# Altium footprint library Fuses.PcbLib: 86 footprints (part 3 of 6)
Each footprint in its own frame and in the unit in brackets; x right, y up, seen from the top. Pads: shape width x height; smd on the part's side, far side on the other; paste and mask are expansions set on the pad; w line width, h text height; cw(c..) or ccw(c..) is an arc to the next point about the centre after c.
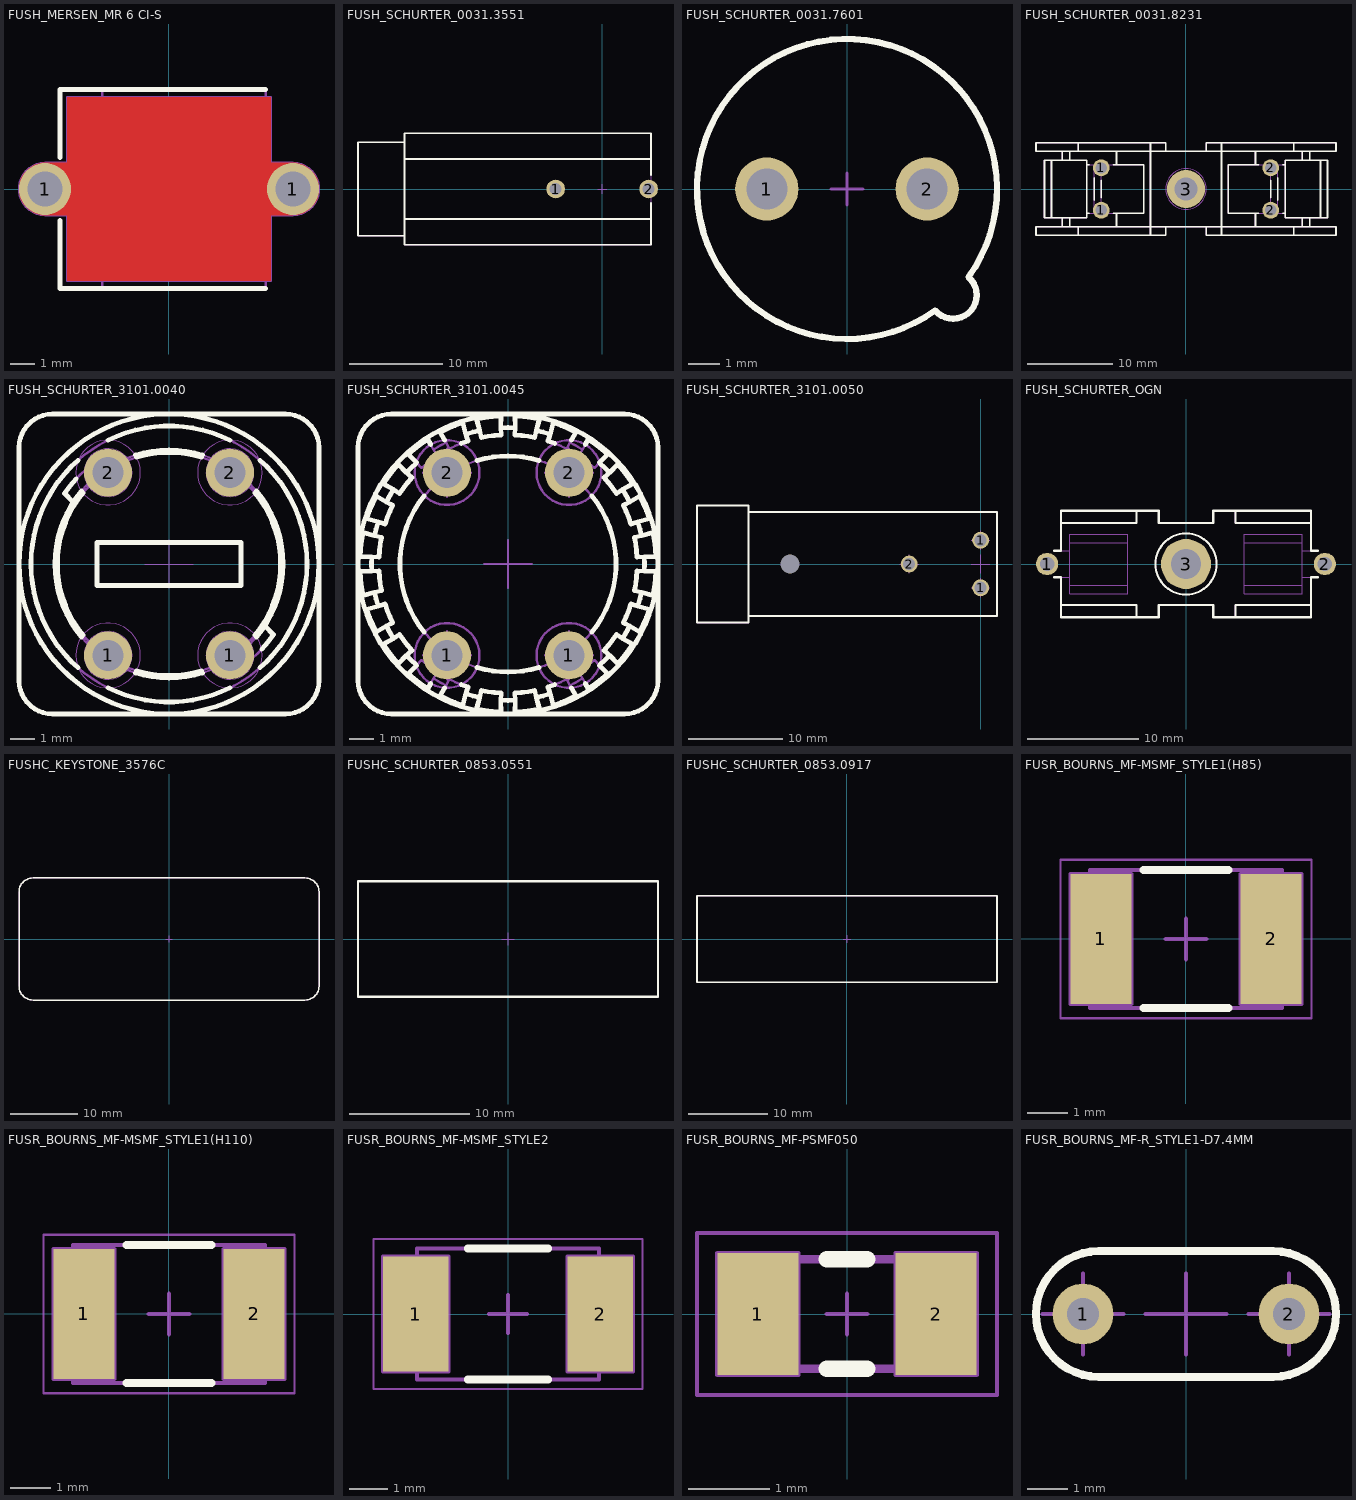
[diagram p2: the footprints below, top view; thin cyan lines are the x and y axes]

## FUSH_MERSEN_MR 6 CI-S [mm] "MERSEN MR 6 CI-S, Fuse Clip for 1/4\" (6.35)mm Diameter Fuses"
height 11
pads (2):
  round 2.1 hole 1.4: 1(-5,0) 1(5,0)
Top Layer:
  region: -5,-1.05 -5.138,-1.05 -5.405,-0.978 -5.645,-0.84 -5.84,-0.645 -5.978,-0.405 -6.05,-0.138 -6.05,0.138 -5.978,0.405 -5.84,0.645 -5.645,0.84 -5.405,0.978 -5.138,1.05 -5,1.05 -4.1,1.05 -4.1,3.7 4.1,3.7 4.1,1.05 5,1.05 5.138,1.05 5.405,0.978 5.645,0.84 5.84,0.645 5.978,0.405 6.05,0.138 6.05,-0.138 5.978,-0.405 5.84,-0.645 5.645,-0.84 5.405,-0.978 5.138,-1.05 5,-1.05 4.1,-1.05 4.1,-3.7 -4.1,-3.7 -4.1,-1.05
Top Overlay:
  lines w0.2: -4.4,-1.269 -4.4,-4.014 3.9,-4.014 ; -4.4,1.269 -4.4,4.014 3.9,4.014
Mechanical 8:
  lines w0.1: -5.5,0 -5,0 ; -5,-0.5 -5,0 ; -5,0.5 -5,0 ; -4.5,0 -5,0 ; -0.5,0 0,0 ; 0,-0.5 0,0 ; 0,0.5 0,0 ; 0.5,0 0,0 ; 4.5,0 5,0 ; 5,-0.5 5,0 ; 5,0.5 5,0 ; 5.5,0 5,0 ; -5,-1.05 cw(c-5,0) -5,1.05 -4.1,1.05 -4.1,3.7 4.1,3.7 4.1,1.05 5,1.05 cw(c5,0) 5,-1.05 4.1,-1.05 4.1,-3.7 -4.1,-3.7 -4.1,-1.05 -5,-1.05
Mechanical 14:
  lines w0.1: -3.9,-1.704 -2.7,-1.704 -2.7,-4.014 3.9,-4.014 3.9,4.014 -2.7,4.014 -2.7,1.704 -3.9,1.704 ; -3.9,-0.55 -5.2,-0.55 -5.2,0.55 -3.9,0.55 ; -2.7,-3.619 -3.9,-3.619 -3.9,3.619 -2.7,3.619 ; -2.7,-2.191 3.9,-2.191 ; -2.7,2.194 3.9,2.194 ; 3.9,-0.55 5.2,-0.55 5.2,0.55 3.9,0.55
3D body "FUSH_MERSEN_MR 6 CI-S.stp": height 10.89, standoff -3.6, extent -5.2,-4.013 5.2,4.014

## FUSH_SCHURTER_0031.3551 [mm] "SCHURTER Type FAB, Horizontal Fuse holder for 5x20mm Fuses"
height 10.16
pads (2):
  round 2 hole 1.3: 1(-5,0) 2(5,0)
Top Overlay:
  lines w0.2: -21.25,-5.03 -26.25,-5.03 -26.25,5.03 -21.25,5.03 ; -21.25,-3.224 5.25,-3.224 ; -21.25,3.224 5.25,3.224 ; 5.25,-1.5 5.25,-6 -21.25,-6 -21.25,6 5.25,6 5.25,1.5
Mechanical 8:
  lines w0.1: -5.5,0 -5,0 ; -5,-0.5 -5,0 ; -5,0.5 -5,0 ; -4.5,0 -5,0 ; -0.5,0 0,0 ; 0,-0.5 0,0 ; 0,0.5 0,0 ; 0.5,0 0,0 ; 4.5,0 5,0 ; 5,-0.5 5,0 ; 5,0.5 5,0 ; 5.5,0 5,0
Mechanical 14:
  lines w0.1: -21.25,-5.03 -26.25,-5.03 -26.25,5.03 -21.25,5.03 ; -21.25,-3.224 5.25,-3.224 ; -21.25,3.224 5.25,3.224 ; -21.25,-6 -21.25,6 5.25,6 5.25,-6 -21.25,-6
3D body "FUSH_SCHURTER_0031.3551.stp": height 10.06, standoff -5, extent -26.25,-6 5.25,6

## FUSH_SCHURTER_0031.7601 [mm] "Vertical Fuse Holder For D8.5x H 8.5mm Subminiature Fuses"
height 4.4
pads (2):
  round 2 hole 1.3: 1(-2.54,0) 2(2.54,0)
Top Overlay:
  lines w0.2: 2.789,-3.846 ccw(c3.359,-3.359) 3.846,-2.789 ccw(c0,0) 2.789,-3.846
Mechanical 8:
  lines w0.1: -3.04,0 -2.54,0 ; -2.54,-0.5 -2.54,0 ; -2.54,0.5 -2.54,0 ; -2.04,0 -2.54,0 ; -0.5,0 0,0 ; 0,-0.5 0,0 ; 0,0.5 0,0 ; 0.5,0 0,0 ; 2.04,0 2.54,0 ; 2.54,-0.5 2.54,0 ; 2.54,0.5 2.54,0 ; 3.04,0 2.54,0
Mechanical 14:
  circle w0.1: c2.54,0 r0.55
  circle w0.1: c-2.54,0 r0.55
  lines w0.1: 2.789,-3.846 ccw(c3.359,-3.359) 3.846,-2.789 ccw(c0,0) 2.789,-3.846
3D body "FUSH_SCHURTER_0031.7601.stp": height 4.4, standoff -3.2, extent -4.75,-4.746 4.75,4.746

## FUSH_SCHURTER_0031.8231 [mm] "SCHURTER OGD Series, Fuse holder for 5x20mm/6.3x32mm Fuses"
height 11.5
pads (5):
  round 2 hole 1.3: 1(-10,-2.5) 1(-10,2.5) 2(10,-2.5) 2(10,2.5)
  round 4.5 hole 2.7: 3(0,0)
Top Overlay:
  lines w0.2: -15.875,-3.375 -15.875,3.375 ; -14.6,-4.45 -14.6,-3.375 ; -14.6,3.375 -14.6,4.45 ; -13.7,-4.45 -13.7,-3.375 ; -13.7,3.375 -13.7,4.45 ; -12.7,-5.45 -12.7,-4.45 ; -12.7,4.45 -12.7,5.45 ; -11.7,-2.878 -11.4,-2.878 ; -11.7,2.878 -11.4,2.878 ; -10.825,-1.308 -10.825,1.308 ; -10,-1.05 -10,1.05 ; -8.6,-2.878 -5,-2.878 -5,2.878 -8.6,2.878 ; -8.2,-4.45 -8.2,-2.878 ; -8.2,2.878 -8.2,4.45 ; -4.2,-5.45 -4.2,5.45 ; 4.2,-5.45 4.2,5.45 ; 8.2,-4.45 8.2,-2.878 ; 8.2,2.878 8.2,4.45 ; 8.6,-2.878 5,-2.878 5,2.878 8.6,2.878 ; 10,-1.05 10,1.05 ; 10.825,-1.308 10.825,1.308 ; 11.4,-2.878 11.7,-2.878 ; 11.4,2.878 11.7,2.878 ; 12.7,-5.45 12.7,-4.45 ; 12.7,4.45 12.7,5.45 ; 13.7,-4.45 13.7,-3.375 ; 13.7,3.375 13.7,4.45 ; 14.6,-4.45 14.6,-3.375 ; 14.6,3.375 14.6,4.45 ; 15.875,-3.375 15.875,3.375 ; -2.4,-4.45 2.4,-4.45 ; -2.4,-4.45 -2.4,-5.45 -17.7,-5.45 -17.7,-4.45 -2.4,-4.45 ; -2.4,4.45 -17.7,4.45 -17.7,5.45 -2.4,5.45 -2.4,4.45 ; -2.4,4.45 2.4,4.45 ; 2.4,-4.45 17.7,-4.45 17.7,-5.45 2.4,-5.45 2.4,-4.45 ; 2.4,4.45 17.7,4.45 17.7,5.45 2.4,5.45 2.4,4.45 ; -16.7,-3.375 -11.7,-3.375 -11.7,3.375 -16.7,3.375 -16.7,-3.375 ; 11.7,-3.375 11.7,3.375 16.7,3.375 16.7,-3.375 11.7,-3.375
Mechanical 8:
  lines w0.1: -10.5,-2.5 -10,-2.5 ; -10.5,2.5 -10,2.5 ; -10,-3 -10,-2.5 ; -10,-2 -10,-2.5 ; -10,2 -10,2.5 ; -10,3 -10,2.5 ; -9.5,-2.5 -10,-2.5 ; -9.5,2.5 -10,2.5 ; -0.5,0 0,0 ; 0,-0.5 0,0 ; 0,0.5 0,0 ; 0.5,0 0,0 ; 9.5,-2.5 10,-2.5 ; 9.5,2.5 10,2.5 ; 10,-3 10,-2.5 ; 10,-2 10,-2.5 ; 10,2 10,2.5 ; 10,3 10,2.5 ; 10.5,-2.5 10,-2.5 ; 10.5,2.5 10,2.5
Mechanical 14:
  circle w0.1: c0,0 r2.4
  circle w0.1: c0,0 r1.35
  lines w0.1: -15.875,-3.375 -15.875,3.375 ; -14.6,-4.45 -14.6,-3.375 ; -14.6,3.375 -14.6,4.45 ; -13.7,-4.45 -13.7,-3.375 ; -13.7,3.375 -13.7,4.45 ; -12.7,-5.45 -12.7,-4.45 ; -12.7,4.45 -12.7,5.45 ; -11.7,-2.878 -10.825,-2.878 ; -11.7,2.878 -10.825,2.878 ; -10,-2.896 -10,2.878 ; -8.2,-4.45 -8.2,-2.878 ; -8.2,2.878 -8.2,4.45 ; -4.2,-5.45 -4.2,5.45 ; 4.2,-5.45 4.2,5.45 ; 8.2,-4.45 8.2,-2.878 ; 8.2,2.878 8.2,4.45 ; 10,-2.896 10,2.878 ; 11.7,-2.878 10.825,-2.878 ; 11.7,2.878 10.825,2.878 ; 12.7,-5.45 12.7,-4.45 ; 12.7,4.45 12.7,5.45 ; 13.7,-4.45 13.7,-3.375 ; 13.7,3.375 13.7,4.45 ; 14.6,-4.45 14.6,-3.375 ; 14.6,3.375 14.6,4.45 ; 15.875,-3.375 15.875,3.375 ; -10.825,-2.878 -5,-2.878 -5,2.878 -10.825,2.878 ; -10.825,-2.878 -10.825,2.878 ; -2.4,-4.45 2.4,-4.45 ; -2.4,-4.45 -2.4,-5.45 -17.7,-5.45 -17.7,-4.45 -2.4,-4.45 ; -2.4,4.45 -17.7,4.45 -17.7,5.45 -2.4,5.45 -2.4,4.45 ; -2.4,4.45 2.4,4.45 ; 2.4,-4.45 17.7,-4.45 17.7,-5.45 2.4,-5.45 2.4,-4.45 ; 2.4,4.45 17.7,4.45 17.7,5.45 2.4,5.45 2.4,4.45 ; 10.825,-2.878 5,-2.878 5,2.878 10.825,2.878 ; 10.825,-2.878 10.825,2.878 ; -16.7,-3.375 -11.7,-3.375 -11.7,3.375 -16.7,3.375 -16.7,-3.375 ; 11.7,-3.375 11.7,3.375 16.7,3.375 16.7,-3.375 11.7,-3.375
3D body "FUSH_SCHURTER_0031.8231.stp": height 12.7, standoff -3.13, extent -17.7,-5.45 17.7,5.45

## FUSH_SCHURTER_3101.0040 [mm] "SCHURTER Type FPG4, Vertical Fuse Holder for 5x20mm Fuses"
height 32.6
pads (4):
  round 2 hole 1.3: 1(-2.54,-3.81) 1(2.54,-3.81) 2(-2.54,3.81) 2(2.54,3.81)
Top Overlay:
  circle w0.2: c0,0 r6.25
  lines w0.2: -3.991,2.576 -4.351,2.937 cw(c0,0) -3.865,3.553 ; -3.787,-4.327 cw(c0,0) -3.787,4.327 ; -3.649,-3.041 cw(c0,0) -3.649,3.041 ; -3.588,-2.958 cw(c0,0) -3.588,2.958 ; -2.54,5.16 cw(c0,-0.008) 2.54,5.16 ; -2.537,-5.16 ccw(c0,0) 2.537,-5.16 ; -1.403,-4.538 ccw(c0,0) 1.403,-4.538 ; -1.403,4.538 cw(c0,0) 1.403,4.538 ; -1.351,-4.449 ccw(c0,0) 1.351,-4.449 ; -1.351,4.449 cw(c0,0) 1.351,4.449 ; 3.588,-2.958 ccw(c0,0) 3.588,2.958 ; 3.649,-3.041 ccw(c0,0) 3.649,3.041 ; 3.787,-4.327 ccw(c0,0) 3.787,4.327 ; 3.865,-3.553 ccw(c0,0) 4.351,-2.937 3.991,-2.576 ; -6.25,-4.85 ccw(c-4.85,-4.85) -4.85,-6.25 4.85,-6.25 ccw(c4.85,-4.85) 6.25,-4.85 6.25,4.85 ccw(c4.85,4.85) 4.85,6.25 -4.85,6.25 ccw(c-4.85,4.85) -6.25,4.85 -6.25,-4.85 ; -3,-0.9 3,-0.9 3,0.9 -3,0.9 -3,-0.9
Mechanical 8:
  circle w0.05: c-2.54,3.81 r0.65
  circle w0.05: c-2.54,3.81 r1
  circle w0.05: c-2.54,3.81 r1.35
  circle w0.05: c2.54,3.81 r0.65
  circle w0.05: c2.54,3.81 r1
  circle w0.05: c2.54,3.81 r1.35
  circle w0.05: c2.54,-3.81 r0.65
  circle w0.05: c2.54,-3.81 r1
  circle w0.05: c2.54,-3.81 r1.35
  circle w0.05: c-2.54,-3.81 r0.65
  circle w0.05: c-2.54,-3.81 r1
  circle w0.05: c-2.54,-3.81 r1.35
  lines w0.05: -3.54,-3.81 -2.54,-3.81 ; -3.54,3.81 -2.54,3.81 ; -2.54,-4.81 -2.54,-3.81 ; -2.54,-2.81 -2.54,-3.81 ; -2.54,2.81 -2.54,3.81 ; -2.54,4.81 -2.54,3.81 ; -1.54,-3.81 -2.54,-3.81 ; -1.54,3.81 -2.54,3.81 ; -1,0 0,0 ; 0,-1 0,0 ; 0,1 0,0 ; 1,0 0,0 ; 1.54,-3.81 2.54,-3.81 ; 1.54,3.81 2.54,3.81 ; 2.54,-4.81 2.54,-3.81 ; 2.54,-2.81 2.54,-3.81 ; 2.54,2.81 2.54,3.81 ; 2.54,4.81 2.54,3.81 ; 3.54,-3.81 2.54,-3.81 ; 3.54,3.81 2.54,3.81
Mechanical 14:
  circle w0.1: c0,0 r6.25
  circle w0.1: c0,0 r5.75
  circle w0.1: c0,0 r4.65
  circle w0.1: c0,0 r4.75
  lines w0.1: -3.991,2.576 -4.351,2.937 cw(c0,0) -2.937,4.351 -2.576,3.991 ; 2.576,-3.991 2.937,-4.351 ccw(c0,0) 4.351,-2.937 3.991,-2.576 ; -6.25,-4.85 ccw(c-4.85,-4.85) -4.85,-6.25 4.85,-6.25 ccw(c4.85,-4.85) 6.25,-4.85 6.25,4.85 ccw(c4.85,4.85) 4.85,6.25 -4.85,6.25 ccw(c-4.85,4.85) -6.25,4.85 -6.25,-4.85 ; -3,-0.9 3,-0.9 3,0.9 -3,0.9 -3,-0.9
3D body "FUSH_SCHURTER_3101.0040.stp": height 32.6, standoff -5.2, extent -6.25,-6.25 6.25,6.25

## FUSH_SCHURTER_3101.0045 [mm] "SCHURTER Type FPG4, Vertical Shock-Safe Fuse Holder (With Fingergrip)for 5x20mm Fuses"
height 37.6
pads (4):
  round 2 hole 1.3: 1(-2.54,-3.81) 1(2.54,-3.81) 2(-2.54,3.81) 2(2.54,3.81)
Top Overlay:
  drawing of 172 lines, arcs and shapes, not listed
Mechanical 8:
  circle w0.1: c-2.54,3.81 r1.35
  circle w0.1: c2.54,3.81 r1.35
  circle w0.1: c2.54,-3.81 r1.35
  circle w0.1: c-2.54,-3.81 r1.35
  lines w0.1: -3.54,-3.81 -2.54,-3.81 ; -3.54,3.81 -2.54,3.81 ; -2.54,-4.81 -2.54,-3.81 ; -2.54,-2.81 -2.54,-3.81 ; -2.54,2.81 -2.54,3.81 ; -2.54,4.81 -2.54,3.81 ; -1.54,-3.81 -2.54,-3.81 ; -1.54,3.81 -2.54,3.81 ; -1,0 0,0 ; 0,-1 0,0 ; 0,1 0,0 ; 1,0 0,0 ; 1.54,-3.81 2.54,-3.81 ; 1.54,3.81 2.54,3.81 ; 2.54,-4.81 2.54,-3.81 ; 2.54,-2.81 2.54,-3.81 ; 2.54,2.81 2.54,3.81 ; 2.54,4.81 2.54,3.81 ; 3.54,-3.81 2.54,-3.81 ; 3.54,3.81 2.54,3.81
Mechanical 14:
  drawing of 170 lines, arcs and shapes, not listed
3D body "FUSH_SCHURTER_3101.0045.stp": height 37.6, standoff -5.2, extent -6.25,-6.25 6.25,6.25

## FUSH_SCHURTER_3101.0050 [mm] "SCHURTER Type FPG5, Horizontal Fuse holder for 5x20mm Fuses"
height 12.7
pads (4):
  round 1.8 hole 1.3: 1(0,-2.54) 1(0,2.54) 2(-7.62,0)
  round 0.5 hole 2 unplated mask+0.75: 3(-20.32,0)
Top Overlay:
  lines w0.2: -24.75,-5.55 1.75,-5.55 1.75,5.55 -24.75,5.55 ; -30.25,-6.25 -24.75,-6.25 -24.75,6.25 -30.25,6.25 -30.25,-6.25
Mechanical 8:
  lines w0.1: -21.32,0 -20.32,0 ; -20.32,-1 -20.32,0 ; -20.32,1 -20.32,0 ; -19.32,0 -20.32,0 ; -8.62,0 -7.62,0 ; -7.62,-1 -7.62,0 ; -7.62,1 -7.62,0 ; -6.62,0 -7.62,0 ; -1,-2.54 0,-2.54 ; -1,0 0,0 ; -1,2.54 0,2.54 ; 0,-3.54 0,-2.54 ; 0,-1.54 0,-2.54 ; 0,-1 0,0 ; 0,1 0,0 ; 0,1.54 0,2.54 ; 0,3.54 0,2.54 ; 1,-2.54 0,-2.54 ; 1,0 0,0 ; 1,2.54 0,2.54
Mechanical 14:
  lines w0.1: -24.75,-5.55 1.75,-5.55 1.75,5.55 -24.75,5.55 ; -30.25,-6.25 -24.75,-6.25 -24.75,6.25 -30.25,6.25 -30.25,-6.25
3D body "FUSH_SCHURTER_3101.0050.stp": height 12.7, standoff -3.6, extent -30.25,-6.25 1.75,6.25

## FUSH_SCHURTER_OGN [mm] "SCHURTER OGN Series, Fuse holder for 5x20mm Fuses"
height 11.5
pads (3):
  round 2 hole 1.3: 1(-12.5,0) 2(12.5,0)
  round 4.5 hole 2.7: 3(0,0)
Top Overlay:
  circle w0.2: c0,0 r2.75
  lines w0.2: -11.85,-1.2 -11.25,-1.2 -11.25,-4.8 -2.45,-4.8 -2.45,-3.7 2.45,-3.7 2.45,-4.8 11.25,-4.8 ; -11.85,1.2 -11.25,1.2 -11.25,4.8 -2.45,4.8 -2.45,3.7 2.45,3.7 2.45,4.8 11.25,4.8 11.25,1.2 11.85,1.2 ; -11.25,-3.7 -4.45,-3.7 -4.45,-4.8 ; -11.25,3.7 -4.45,3.7 -4.45,4.8 ; 4.45,-4.8 4.45,-3.7 11.25,-3.7 11.25,-4.8 ; 4.45,4.8 4.45,3.7 11.25,3.7 ; 11.85,-1.2 11.25,-1.2 11.25,-4.8
Mechanical 14:
  circle w0.1: c0,0 r2.75
  lines w0.1: -11.85,-1.2 -10.45,-1.2 ; -11.85,1.2 -10.45,1.2 -10.45,0 ; -11.25,-3.7 -4.45,-3.7 -4.45,-4.8 ; -11.25,-1.2 -11.25,-4.8 -2.45,-4.8 -2.45,-3.7 2.45,-3.7 2.45,-4.8 11.25,-4.8 ; -11.25,1.2 -11.25,4.8 -2.45,4.8 -2.45,3.7 2.45,3.7 2.45,4.8 11.25,4.8 11.25,1.2 ; -11.25,3.7 -4.45,3.7 -4.45,4.8 ; -10.45,-1.9 -5.25,-1.9 ; -10.45,1.9 -5.25,1.9 ; 4.45,-4.8 4.45,-3.7 11.25,-3.7 11.25,-4.8 ; 4.45,4.8 4.45,3.7 11.25,3.7 ; 5.25,-1.9 10.45,-1.9 ; 5.25,1.9 10.45,1.9 ; 10.45,0 10.45,-1.2 11.85,-1.2 ; 10.45,1.2 11.85,1.2 ; 11.25,-1.2 11.25,-4.8 ; -10.45,-2.7 -5.25,-2.7 -5.25,2.7 -10.45,2.7 -10.45,-2.7 ; 5.25,-2.7 10.45,-2.7 10.45,2.7 5.25,2.7 5.25,-2.7
3D body: height 2.5, standoff -3, extent -12.8,-0.4 -12.575,0.4
3D body "FUSH_SCHURTER_OGN.stp": height 11.5, standoff -3.8, extent -12.65,-4.8 12.65,4.8

## FUSHC_KEYSTONE_3576C [mm] "Cover for Fuse Holder KEYSTONE 3576"
height 13.92
Top Overlay:
  lines w0.2: -22.276,-6.985 ccw(c-20.193,-6.985) -20.193,-9.068 20.193,-9.068 ccw(c20.193,-6.985) 22.276,-6.985 22.276,6.985 ccw(c20.193,6.985) 20.193,9.068 -20.193,9.068 ccw(c-20.193,6.985) -22.276,6.985 -22.276,-6.985
Mechanical 8:
  lines w0.1: -0.5,0 0,0 ; 0,-0.5 0,0 ; 0,0.5 0,0 ; 0.5,0 0,0
Mechanical 14:
  lines w0.1: -22.276,-6.985 ccw(c-20.193,-6.985) -20.193,-9.068 20.193,-9.068 ccw(c20.193,-6.985) 22.276,-6.985 22.276,6.985 ccw(c20.193,6.985) 20.193,9.068 -20.193,9.068 ccw(c-20.193,6.985) -22.276,6.985 -22.276,-6.985
3D body "FUSHC_KEYSTONE_3576C.stp": height 19.55, standoff 5.63, extent -22.276,-9.068 22.276,9.068

## FUSHC_SCHURTER_0853.0551 [mm] "Cover for Fuse Holder OGN, OGN-SMD"
height 14.7
Top Overlay:
  lines w0.2: -12.5,-4.8 -12.5,4.8 12.5,4.8 12.5,-4.8 -12.5,-4.8
Mechanical 8:
  lines w0.1: -0.5,0 0,0 ; 0,-0.5 0,0 ; 0,0.5 0,0 ; 0.5,0 0,0
Mechanical 14:
  lines w0.1: -12.5,-4.8 -12.5,4.8 12.5,4.8 12.5,-4.8 -12.5,-4.8
3D body "FUSHC_SCHURTER_0853.0551.stp": height 12.5, standoff 0, extent -12.5,-4.8 12.5,4.8

## FUSHC_SCHURTER_0853.0917 [mm] "Cover for Fuse Holder OGD, OGD-SMD"
height 14.7
Top Overlay:
  lines w0.2: -18.9,-5.45 18.9,-5.45 18.9,5.45 -18.9,5.45 -18.9,-5.45
Mechanical 8:
  lines w0.1: -0.5,0 0,0 ; 0,-0.5 0,0 ; 0,0.5 0,0 ; 0.5,0 0,0
Mechanical 14:
  lines w0.1: -18.9,-5.45 18.9,-5.45 18.9,5.45 -18.9,5.45 -18.9,-5.45
3D body "FUSHC_SCHURTER_0853.0917.stp": height 14.8, standoff 0.1, extent -18.9,-5.45 18.9,5.45

## FUSR_BOURNS_MF-MSMF_STYLE1(H85) [mm] "PTC Resettable Fuse, MF-MSMS Series, Case Style 1 Height 0.85mm"
height 0.85
pads (2):
  rect 1.5x3.2 smd: 1(-2.1,0) 2(2.1,0)
Top Overlay:
  lines w0.2: -1.05,-1.705 1.05,-1.705 ; -1.05,1.705 1.05,1.705
Mechanical 8:
  lines w0.1: -2.6,0 -2.1,0 ; -2.1,-0.5 -2.1,0 ; -2.1,0.5 -2.1,0 ; -1.6,0 -2.1,0 ; -0.5,0 0,0 ; 0,-0.5 0,0 ; 0,0.5 0,0 ; 0.5,0 0,0 ; 1.465,0 2.1,0 ; 1.6,0 2.1,0 ; 2.1,-0.5 2.1,0 ; 2.1,0.5 2.1,0 ; 2.6,0 2.1,0 ; -2.85,-1.6 -1.35,-1.6 -1.35,1.6 -2.85,1.6 -2.85,-1.6 ; 1.35,-1.6 2.85,-1.6 2.85,1.6 1.35,1.6 1.35,-1.6
Mechanical 14:
  lines w0.1: -2.365,-0.592 -2.265,-0.592 -2.265,-1.605 -1.365,-1.605 -1.365,1.605 -2.265,1.605 -2.265,0.592 -2.365,0.592 ; 2.365,-0.592 2.265,-0.592 2.265,-1.605 1.365,-1.605 1.365,1.605 2.265,1.605 2.265,0.592 2.365,0.592 ; -2.365,-1.705 2.365,-1.705 2.365,-0.5 cw(c2.365,0) 2.365,0.5 2.365,1.705 -2.365,1.705 -2.365,0.5 cw(c-2.365,0) -2.365,-0.5 -2.365,-1.705
Mechanical 15:
  lines w0.05: -3.1,-1.955 3.1,-1.955 3.1,1.955 -3.1,1.955 -3.1,-1.955
3D body "FUSR_BOURNS_MF-MSMF_STYLE1(H85).stp": height 0.85, standoff 0, extent -2.365,-1.705 2.365,1.705

## FUSR_BOURNS_MF-MSMF_STYLE1(H110) [mm] "PTC Resettable Fuse, MF-MSMS Series, Case Style 1 Height 1.10mm"
height 1.1
pads (2):
  rect 1.5x3.2 smd: 1(-2.1,0) 2(2.1,0)
Top Overlay:
  lines w0.2: -1.05,-1.705 1.05,-1.705 ; -1.05,1.705 1.05,1.705
Mechanical 8:
  lines w0.1: -2.6,0 -2.1,0 ; -2.1,-0.5 -2.1,0 ; -2.1,0.5 -2.1,0 ; -1.6,0 -2.1,0 ; -0.5,0 0,0 ; 0,-0.5 0,0 ; 0,0.5 0,0 ; 0.5,0 0,0 ; 1.465,0 2.1,0 ; 1.6,0 2.1,0 ; 2.1,-0.5 2.1,0 ; 2.1,0.5 2.1,0 ; 2.6,0 2.1,0 ; -2.85,-1.6 -1.35,-1.6 -1.35,1.6 -2.85,1.6 -2.85,-1.6 ; 1.35,-1.6 2.85,-1.6 2.85,1.6 1.35,1.6 1.35,-1.6
Mechanical 14:
  lines w0.1: -2.365,-0.592 -2.265,-0.592 -2.265,-1.605 -1.365,-1.605 -1.365,1.605 -2.265,1.605 -2.265,0.592 -2.365,0.592 ; 2.365,-0.592 2.265,-0.592 2.265,-1.605 1.365,-1.605 1.365,1.605 2.265,1.605 2.265,0.592 2.365,0.592 ; -2.365,-1.705 2.365,-1.705 2.365,-0.5 cw(c2.365,0) 2.365,0.5 2.365,1.705 -2.365,1.705 -2.365,0.5 cw(c-2.365,0) -2.365,-0.5 -2.365,-1.705
Mechanical 15:
  lines w0.05: -3.1,-1.955 3.1,-1.955 3.1,1.955 -3.1,1.955 -3.1,-1.955
3D body "FUSR_BOURNS_MF-MSMF_STYLE1(H110).stp": height 1.1, standoff 0, extent -2.365,-1.705 2.365,1.705

## FUSR_BOURNS_MF-MSMF_STYLE2 [mm] "PTC Resettable Fuse, MF-MSMS Series, Case Style 2"
height 1.6
pads (2):
  rect 1.7x3 smd: 1(-2.4,0) 2(2.4,0)
Top Overlay:
  lines w0.2: -1.05,-1.705 1.05,-1.705 ; -1.05,1.705 1.05,1.705
Mechanical 8:
  lines w0.1: -2.9,0 -2.4,0 ; -2.4,-0.5 -2.4,0 ; -2.4,0.5 -2.4,0 ; -1.9,0 -2.4,0 ; -0.5,0 0,0 ; 0,-0.5 0,0 ; 0,0.5 0,0 ; 0.5,0 0,0 ; 1.9,0 2.4,0 ; 2.4,-0.5 2.4,0 ; 2.4,0.5 2.4,0 ; 2.9,0 2.4,0 ; -3.25,-1.5 -1.55,-1.5 -1.55,1.5 -3.25,1.5 -3.25,-1.5 ; 1.55,-1.5 3.25,-1.5 3.25,1.5 1.55,1.5 1.55,-1.5
Mechanical 14:
  lines w0.1: -2.365,-0.592 ccw(c-2.365,0) -2.365,0.592 ; 2.365,-0.592 cw(c2.365,0) 2.365,0.592 ; -2.365,-1.705 2.365,-1.705 2.365,-0.5 cw(c2.365,0) 2.365,0.5 2.365,1.705 -2.365,1.705 -2.365,0.5 cw(c-2.365,0) -2.365,-0.5 -2.365,-1.705
Mechanical 15:
  lines w0.05: -3.5,-1.955 3.5,-1.955 3.5,1.955 -3.5,1.955 -3.5,-1.955
3D body "FUSR_BOURNS_MF-MSMF_STYLE2.stp": height 1.6, standoff 0, extent -2.365,-1.705 2.365,1.705

## FUSR_BOURNS_MF-PSMF050 [mm] "PTC Resettable Fuse, MF-PSMS Series, Height 0.48mm"
height 0.48
pads (2):
  rect 1x1.5 smd: 1(-1.1,0) 2(1.1,0)
Top Overlay:
  lines w0.2: -0.25,-0.675 0.25,-0.675 ; -0.25,0.675 0.25,0.675
Mechanical 8:
  lines w0.05: -0.6,0 -0.6,0.75 ; -0.25,0 0,0 ; 0,-0.25 0,0 ; 0,0.25 0,0 ; 0.25,0 0,0 ; 0.6,0 0.6,0.75 ; -1.6,-0.75 -1.1,0 -0.6,-0.75 ; -1.6,-0.75 -0.6,-0.75 ; -1.6,-0.75 -1.6,0.75 -0.6,0.75 ; -0.6,-0.75 -0.6,0.75 ; 0.6,-0.75 1.1,0 1.6,-0.75 ; 0.6,-0.75 1.6,-0.75 ; 0.6,-0.75 0.6,0.75 ; 0.6,0.75 1.6,0.75 1.6,-0.75
Mechanical 14:
  lines w0.1: -1.075,-0.12 ccw(c-1.075,0) -1.075,0.12 ; 1.075,-0.12 cw(c1.075,0) 1.075,0.12 ; -1.075,-0.675 -1.075,-0.1 ccw(c-1.075,0) -1.075,0.1 -1.075,0.675 1.075,0.675 1.075,0.1 ccw(c1.075,0) 1.075,-0.1 1.075,-0.675 -1.075,-0.675
Mechanical 15:
  lines w0.05: -1.85,-1 -1.85,1 1.85,1 1.85,-1 -1.85,-1
3D body "FUSR_BOURNS_MF-PSMF050.stp": height 0.48, standoff 0, extent -1.075,-0.675 1.075,0.675

## FUSR_BOURNS_MF-R_STYLE1-D7.4MM [mm] "PTC Resettable Fuse, MF-R Series, Case style 1 Diametre 7.4mm"
height 13.4
pads (2):
  round 1.5 hole 0.8: 1(-2.54,0) 2(2.54,0)
Top Overlay:
  lines w0.2: -3.7,0 cw(c-2.15,0) -2.15,1.55 2.15,1.55 cw(c2.15,0) 3.7,0 cw(c2.15,0) 2.15,-1.55 -2.15,-1.55 cw(c-2.15,0) -3.7,0
Mechanical 8:
  lines w0.1: -3.54,0 -2.54,0 ; -2.54,-1 -2.54,0 ; -2.54,1 -2.54,0 ; -1.54,0 -2.54,0 ; -1,0 0,0 ; 0,-1 0,0 ; 0,1 0,0 ; 1,0 0,0 ; 1.54,0 2.54,0 ; 2.54,-1 2.54,0 ; 2.54,1 2.54,0 ; 3.54,0 2.54,0
Mechanical 14:
  lines w0.1: -3.7,0 cw(c-2.15,0) -2.15,1.55 2.15,1.55 cw(c2.15,0) 3.7,0 cw(c2.15,0) 2.15,-1.55 -2.15,-1.55 cw(c-2.15,0) -3.7,0
3D body "FUSR_BOURNS_MF-R_STYLE1-D7.4MM.stp": height 13.4, standoff -3.6, extent -3.699,-1.55 3.699,1.55